# EAGLE library part ADA4350ARUZ (library open_covg)
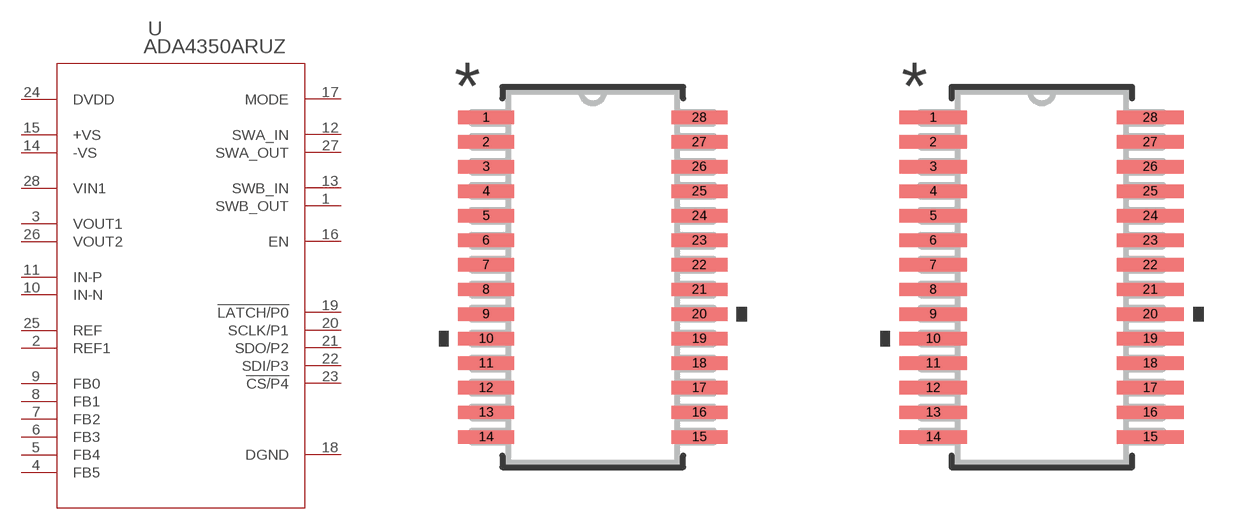
[diagram p27: symbol with the pads of RU_28_ADI; footprints RU_28_ADI, RU_28_ADI-M]

Designator prefix U

## ADA4350ARUZ (BUILT_BY: EMA_UL_Team; MANUFACTURER_PART_NUMBER: ADA4350ARUZ; SOURCELIBRARY: Analog_2015-12-15; VENDOR: Analog Devices Inc)  [RU_28_ADI]
1  SWB_OUT  pas
2  REF1  pas
3  VOUT1  pas
4  FB5  pas
5  FB4  pas
6  FB3  pas
7  FB2  pas
8  FB1  pas
9  FB0  pas
10  IN-N  pas
11  IN-P  pas
12  SWA_IN  pas
13  SWB_IN  pas
14  -VS  pas
15  +VS  pas
16  EN  pas
17  MODE  pas
18  DGND  pas
19  !LATCH/P0  pas
20  SCLK/P1  pas
21  SDO/P2  pas
22  SDI/P3  pas
23  !CS/P4  pas
24  DVDD  pas
25  REF  pas
26  VOUT2  pas
27  SWA_OUT  pas
28  VIN1  pas

## ADA4350ARUZRU_28_ADI-M (BUILT_BY: EMA_UL_Team; MANUFACTURER_PART_NUMBER: ADA4350ARUZ; SOURCELIBRARY: Analog_2015-12-15; VENDOR: Analog Devices Inc)  [RU_28_ADI-M]
Pads as for RU_28_ADI

## ADA4350ARUZRU_28_ADI-L (BUILT_BY: EMA_UL_Team; MANUFACTURER_PART_NUMBER: ADA4350ARUZ; SOURCELIBRARY: Analog_2015-12-15; VENDOR: Analog Devices Inc)  [RU_28_ADI-L]
Pads as for RU_28_ADI

## Footprint RU_28_ADI (pad centres in mm)
smd 1.473 x 0.356: 1 -2.819,4.225; 2 -2.819,3.575; 3 -2.819,2.925; 4 -2.819,2.275; 5 -2.819,1.625; 6 -2.819,0.975; 7 -2.819,0.325; 8 -2.819,-0.325; 9 -2.819,-0.975; 10 -2.819,-1.625; 11 -2.819,-2.275; 12 -2.819,-2.925; 13 -2.819,-3.575; 14 -2.819,-4.225; 15 2.819,-4.225; 16 2.819,-3.575; 17 2.819,-2.925; 18 2.819,-2.275; 19 2.819,-1.625; 20 2.819,-0.975; 21 2.819,-0.325; 22 2.819,0.325; 23 2.819,0.975; 24 2.819,1.625; 25 2.819,2.275; 26 2.819,2.925; 27 2.819,3.575; 28 2.819,4.225

## Footprint RU_28_ADI-M (pad centres in mm)
smd 1.778 x 0.356: 1 -2.87,4.225; 2 -2.87,3.575; 3 -2.87,2.925; 4 -2.87,2.275; 5 -2.87,1.625; 6 -2.87,0.975; 7 -2.87,0.325; 8 -2.87,-0.325; 9 -2.87,-0.975; 10 -2.87,-1.625; 11 -2.87,-2.275; 12 -2.87,-2.925; 13 -2.87,-3.575; 14 -2.87,-4.225; 15 2.87,-4.225; 16 2.87,-3.575; 17 2.87,-2.925; 18 2.87,-2.275; 19 2.87,-1.625; 20 2.87,-0.975; 21 2.87,-0.325; 22 2.87,0.325; 23 2.87,0.975; 24 2.87,1.625; 25 2.87,2.275; 26 2.87,2.925; 27 2.87,3.575; 28 2.87,4.225

## Footprint RU_28_ADI-L (pad centres in mm)
smd 1.168 x 0.305: 1 -2.769,4.225; 2 -2.769,3.575; 3 -2.769,2.925; 4 -2.769,2.275; 5 -2.769,1.625; 6 -2.769,0.975; 7 -2.769,0.325; 8 -2.769,-0.325; 9 -2.769,-0.975; 10 -2.769,-1.625; 11 -2.769,-2.275; 12 -2.769,-2.925; 13 -2.769,-3.575; 14 -2.769,-4.225; 15 2.769,-4.225; 16 2.769,-3.575; 17 2.769,-2.925; 18 2.769,-2.275; 19 2.769,-1.625; 20 2.769,-0.975; 21 2.769,-0.325; 22 2.769,0.325; 23 2.769,0.975; 24 2.769,1.625; 25 2.769,2.275; 26 2.769,2.925; 27 2.769,3.575; 28 2.769,4.225